# Altium footprint library CIs.PcbLib: 2 footprints
Each footprint in its own frame and in the unit in brackets; x right, y up, seen from the top. Pads: shape width x height; smd on the part's side, far side on the other; paste and mask are expansions set on the pad; w line width, h text height; cw(c..) or ccw(c..) is an arc to the next point about the centre after c.
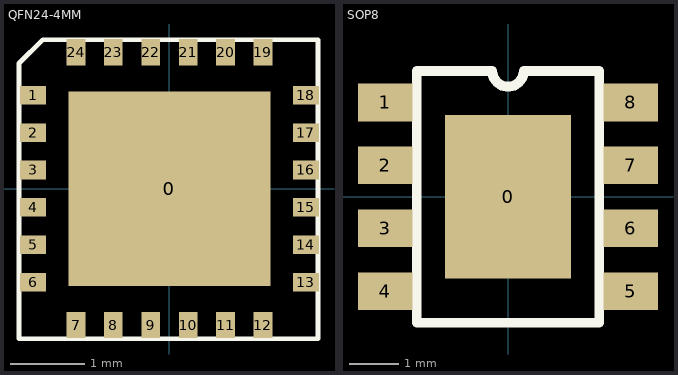
[diagram p0: the footprints below, top view; thin cyan lines are the x and y axes]

## QFN24-4MM [mm]
pads (25):
  rect 2.7x2.6 smd: 0(0,0)
  rect 0.35x0.25 smd: 1(-1.825,1.25) 2(-1.825,0.75) 3(-1.825,0.25) 4(-1.825,-0.25) 5(-1.825,-0.75) 6(-1.825,-1.25) 13(1.825,-1.25) 14(1.825,-0.75) 15(1.825,-0.25) 16(1.825,0.25) 17(1.825,0.75) 18(1.825,1.25)
  rect 0.25x0.35 smd: 7(-1.25,-1.825) 8(-0.75,-1.825) 9(-0.25,-1.825) 10(0.25,-1.825) 11(0.75,-1.825) 12(1.25,-1.825) 19(1.25,1.825) 20(0.75,1.825) 21(0.25,1.825) 22(-0.25,1.825) 23(-0.75,1.825) 24(-1.25,1.825)
Top Overlay:
  lines w0.064: -2.012,-2.009 -2.012,1.674 -1.695,1.992 1.988,1.992 1.988,-2.009 -2.012,-2.009
3D body: height 0.88, standoff -0.02, extent -2.032,-2.032 2.008,2.008

## SOP8 [mm]
pads (9):
  rect 2.54x3.302 smd: 0(0,0)
  rect 1.1x0.76 smd: 1(-2.476,1.905) 2(-2.476,0.635) 3(-2.476,-0.635) 4(-2.476,-1.905) 5(2.476,-1.905) 6(2.476,-0.635) 7(2.476,0.635) 8(2.476,1.905)
Top Overlay:
  lines w0.2: -1.841,-2.54 -1.841,2.54 -0.318,2.54 ccw(c0,2.54) 0.318,2.54 1.841,2.54 1.841,-2.54 -1.841,-2.54
3D body: height 1.6, standoff 0, extent -3.021,-2.51 3.021,2.51